# EAGLE library part MODULO_TP4056_PROT (library misc)
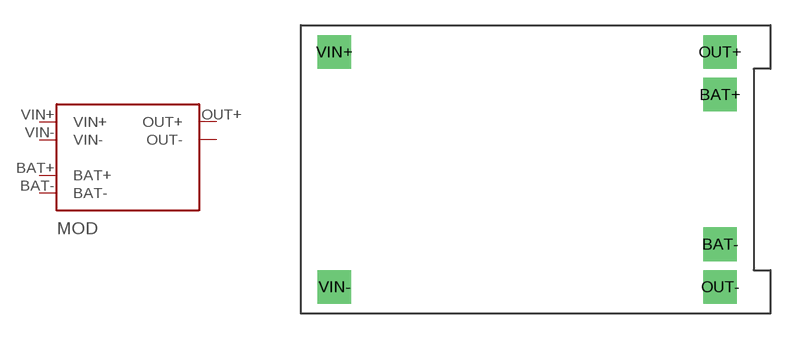
[diagram p5: symbol with the pads of TP4056_PROT_MODULE; footprint TP4056_PROT_MODULE]

Designator prefix MOD

## MODULO_TP4056_PROT  [TP4056_PROT_MODULE]
BAT+  BAT+  pwr
BAT-  BAT-  pwr
OUT+  OUT+  pwr
OUT-  OUT-  pwr
VIN+  VIN+  pwr
VIN-  VIN-  pwr

## Footprint TP4056_PROT_MODULE (pad centres in mm)
drill 1 pad 2 square: BAT+ 25,4.46; BAT- 25,-4.46; OUT+ 25,7; OUT- 25,-7; VIN+ 2,7; VIN- 2,-7